# Altium schematic symbol library CN-1P-F-R3.SchLib: 1 symbol
Pins are listed as number, name and electrical type; pins without a type are passive.

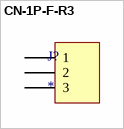
[diagram p0: symbol CN-1P-F-R3]

## CN-1P-F-R3
designator J?
pins: 1, 2, 3